# Altium footprint library Package_SON.PcbLib: 112 footprints (part 6 of 7)
Each footprint in its own frame and in the unit in brackets; x right, y up, seen from the top. Pads: shape width x height; smd on the part's side, far side on the other; paste and mask are expansions set on the pad; w line width, h text height; cw(c..) or ccw(c..) is an arc to the next point about the centre after c.
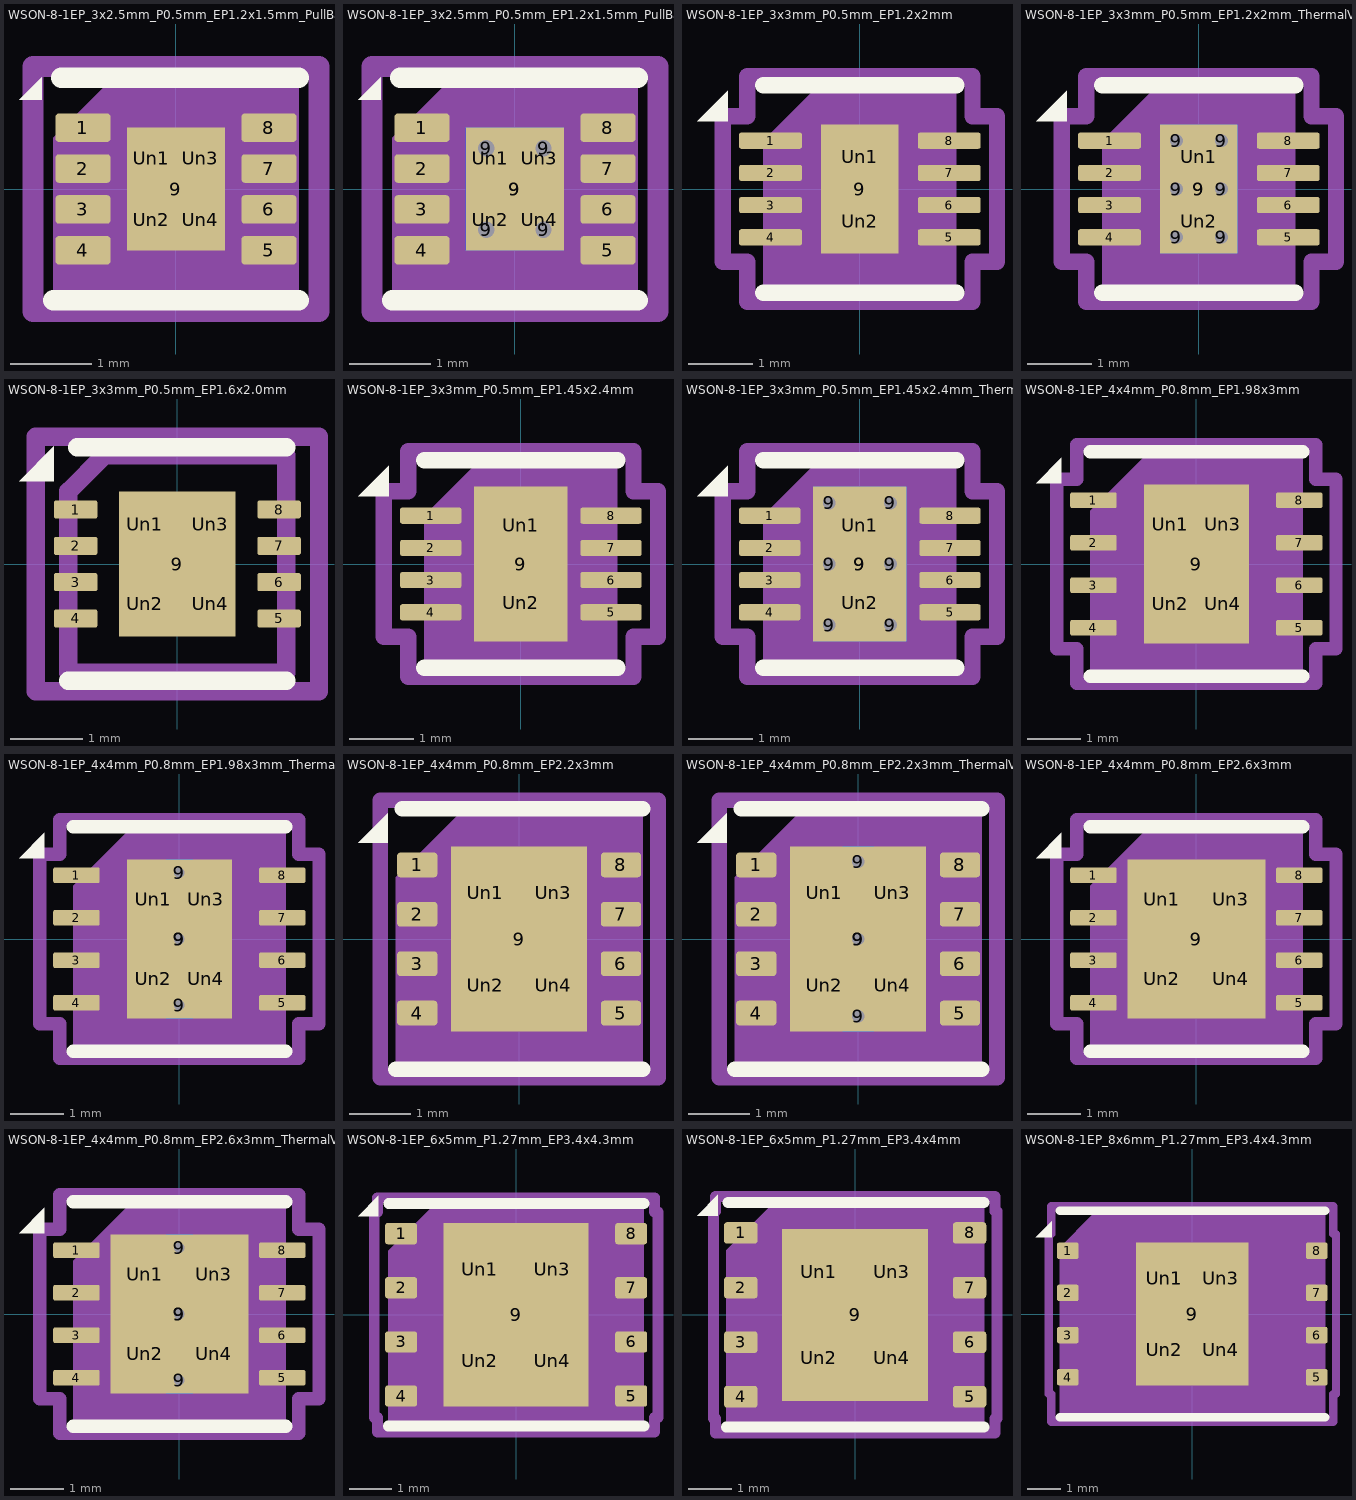
[diagram p5: the footprints below, top view; thin cyan lines are the x and y axes]

## WSON-8-1EP_3x2.5mm_P0.5mm_EP1.2x1.5mm_PullBack [mm] "WSON-8-1EP_3x2.5mm_P0.5mm_EP1.2x1.5mm_PullBack"
pads (13):
  rrect25% 0.675x0.35 smd: 1(-1.138,0.75) 2(-1.138,0.25) 3(-1.138,-0.25) 4(-1.138,-0.75) 5(1.138,-0.75) 6(1.138,-0.25) 7(1.138,0.25) 8(1.138,0.75)
  rect 1.2x1.5 smd: 9(0,0)
  rrect25% 0.48x0.6 on Top Paste: Un1(-0.3,0.375) Un2(-0.3,-0.375) Un3(0.3,0.375) Un4(0.3,-0.375)
F.SilkS:
  region: -1.64,1.09 -1.92,1.09 -1.64,1.37
  lines w0.254: -1.5,-1.36 1.5,-1.36 ; -1.4,1.36 1.5,1.36
Top Component Center:
  lines w0.127: -0.127,0 0.127,0 ; 0,-0.127 0,0.127
Top Assembly:
  region: 1.5,-1.25 -1.5,-1.25 -1.5,0.625 -0.875,1.25 1.5,1.25
Top Courtyard:
  lines w0.254: -1.75,-1.5 -1.75,1.5 1.75,1.5 1.75,-1.5 -1.75,-1.5
Top Designator:
  text ".Designator" at -2.252,-0.226 h1

## WSON-8-1EP_3x2.5mm_P0.5mm_EP1.2x1.5mm_PullBack_ThermalVias [mm] "WSON-8-1EP_3x2.5mm_P0.5mm_EP1.2x1.5mm_PullBack_ThermalVias"
pads (18):
  rrect25% 0.675x0.35 smd: 1(-1.138,0.75) 2(-1.138,0.25) 3(-1.138,-0.25) 4(-1.138,-0.75) 5(1.138,-0.75) 6(1.138,-0.25) 7(1.138,0.25) 8(1.138,0.75)
  round 0.5 hole 0.2: 9(-0.35,-0.5) 9(-0.35,0.5) 9(0.35,-0.5) 9(0.35,0.5)
  rect 1.2x1.5 smd: 9(0,0)
  rect 1.2x1.5 smd far side: 9(0,0)
  rrect25% 0.52x0.65 on Top Paste: Un1(-0.3,0.375) Un2(-0.3,-0.375) Un3(0.3,0.375) Un4(0.3,-0.375)
F.SilkS:
  region: -1.64,1.09 -1.92,1.09 -1.64,1.37
  lines w0.254: -1.5,-1.36 1.5,-1.36 ; -1.4,1.36 1.5,1.36
Top Component Center:
  lines w0.127: -0.127,0 0.127,0 ; 0,-0.127 0,0.127
Top Assembly:
  region: 1.5,-1.25 -1.5,-1.25 -1.5,0.625 -0.875,1.25 1.5,1.25
Top Courtyard:
  lines w0.254: -1.75,-1.5 1.75,-1.5 1.75,1.5 -1.75,1.5 -1.75,-1.5
Top Designator:
  text ".Designator" at -2.252,-0.226 h1

## WSON-8-1EP_3x3mm_P0.5mm_EP1.2x2mm [mm] "WSON-8-1EP_3x3mm_P0.5mm_EP1.2x2mm"
pads (11):
  rrect25% 0.975x0.25 smd: 1(-1.388,0.75) 2(-1.388,0.25) 3(-1.388,-0.25) 4(-1.388,-0.75) 5(1.388,-0.75) 6(1.388,-0.25) 7(1.388,0.25) 8(1.388,0.75)
  rect 1.2x2 smd: 9(0,0)
  rrect25% 0.97x0.81 on Top Paste: Un1(0,0.5) Un2(0,-0.5)
F.SilkS:
  region: -2.05,1.05 -2.53,1.05 -2.05,1.53
  lines w0.254: -1.5,-1.61 1.5,-1.61 ; -1.5,1.61 1.5,1.61
Top Component Center:
  lines w0.127: -0.127,0 0.127,0 ; 0,-0.127 0,0.127
Top Assembly:
  region: 1.5,-1.5 -1.5,-1.5 -1.5,0.75 -0.75,1.5 1.5,1.5
Top Courtyard:
  lines w0.254: -2.13,-1.13 -1.75,-1.13 -1.75,-1.75 1.75,-1.75 1.75,-1.13 2.13,-1.13 2.13,1.13 1.75,1.13 1.75,1.75 -1.75,1.75 -1.75,1.13 -2.13,1.13 -2.13,-1.13
Top Designator:
  text ".Designator" at -3.434,-0.345 h1.52
3D body "WSON-8-1EP_3x3mm_P0.5mm_EP1.6x2.0mm.step": height 0.82, standoff 0, extent -1.5,-1.49 1.5,1.49

## WSON-8-1EP_3x3mm_P0.5mm_EP1.2x2mm_ThermalVias [mm] "WSON-8-1EP_3x3mm_P0.5mm_EP1.2x2mm_ThermalVias"
pads (18):
  rrect25% 0.975x0.25 smd: 1(-1.388,0.75) 2(-1.388,0.25) 3(-1.388,-0.25) 4(-1.388,-0.75) 5(1.388,-0.75) 6(1.388,-0.25) 7(1.388,0.25) 8(1.388,0.75)
  round 0.5 hole 0.2: 9(-0.35,-0.75) 9(-0.35,0) 9(-0.35,0.75) 9(0.35,-0.75) 9(0.35,0) 9(0.35,0.75)
  rect 1.2x2 smd: 9(0,0)
  rect 1.2x2 smd far side: 9(0,0)
  rrect25% 1.04x0.87 on Top Paste: Un1(0,0.5) Un2(0,-0.5)
F.SilkS:
  region: -2.05,1.05 -2.53,1.05 -2.05,1.53
  lines w0.254: -1.5,-1.61 1.5,-1.61 ; -1.5,1.61 1.5,1.61
Top Component Center:
  lines w0.127: -0.127,0 0.127,0 ; 0,-0.127 0,0.127
Top Assembly:
  region: 1.5,-1.5 -1.5,-1.5 -1.5,0.75 -0.75,1.5 1.5,1.5
Top Courtyard:
  lines w0.254: -2.13,-1.13 -1.75,-1.13 -1.75,-1.75 1.75,-1.75 1.75,-1.13 2.13,-1.13 2.13,1.13 1.75,1.13 1.75,1.75 -1.75,1.75 -1.75,1.13 -2.13,1.13 -2.13,-1.13
Top Designator:
  text ".Designator" at -3.434,-0.345 h1.52
3D body "WSON-8-1EP_3x3mm_P0.5mm_EP1.6x2.0mm.step": height 0.82, standoff 0, extent -1.5,-1.49 1.5,1.49

## WSON-8-1EP_3x3mm_P0.5mm_EP1.6x2.0mm [mm] "WSON-8-1EP_3x3mm_P0.5mm_EP1.6x2.0mm"
pads (13):
  rrect25% 0.6x0.25 smd: 1(-1.4,0.75) 2(-1.4,0.25) 3(-1.4,-0.25) 4(-1.4,-0.75) 5(1.4,-0.75) 6(1.4,-0.25) 7(1.4,0.25) 8(1.4,0.75)
  rect 1.6x2 smd: 9(0,0)
  rect 0.6x0.8 on Top Paste: Un1(-0.45,0.55) Un2(-0.45,-0.55) Un3(0.45,0.55) Un4(0.45,-0.55)
F.SilkS:
  region: -1.7,1.14 -2.18,1.14 -1.7,1.62
  lines w0.254: -1.5,-1.61 1.5,-1.61 ; -1.38,1.61 1.5,1.61
Top Component Center:
  lines w0.127: -0.127,0 0.127,0 ; 0,-0.127 0,0.127
Top Assembly:
  lines w0.254: -1.5,-1.5 1.5,-1.5 1.5,1.5 -1,1.5 -1.5,1 -1.5,-1.5
Top Courtyard:
  lines w0.254: -1.95,-1.75 1.95,-1.75 1.95,1.75 -1.95,1.75 -1.95,-1.75
Top Designator:
  text ".Designator" at -3.434,-0.345 h1.52
3D body "WSON-8-1EP_3x3mm_P0.5mm_EP1.6x2.0mm.step": height 0.82, standoff 0, extent -1.5,-1.49 1.5,1.49

## WSON-8-1EP_3x3mm_P0.5mm_EP1.45x2.4mm [mm] "WSON-8-1EP_3x3mm_P0.5mm_EP1.45x2.4mm"
pads (11):
  rrect25% 0.95x0.25 smd: 1(-1.4,0.75) 2(-1.4,0.25) 3(-1.4,-0.25) 4(-1.4,-0.75) 5(1.4,-0.75) 6(1.4,-0.25) 7(1.4,0.25) 8(1.4,0.75)
  rect 1.45x2.4 smd: 9(0,0)
  rrect25% 1.17x0.97 on Top Paste: Un1(0,0.6) Un2(0,-0.6)
F.SilkS:
  region: -2.05,1.05 -2.53,1.05 -2.05,1.53
  lines w0.254: -1.5,-1.61 1.5,-1.61 ; -1.5,1.61 1.5,1.61
Top Component Center:
  lines w0.127: -0.127,0 0.127,0 ; 0,-0.127 0,0.127
Top Assembly:
  region: 1.5,-1.5 -1.5,-1.5 -1.5,0.75 -0.75,1.5 1.5,1.5
Top Courtyard:
  lines w0.254: -2.13,-1.13 -1.75,-1.13 -1.75,-1.75 1.75,-1.75 1.75,-1.13 2.13,-1.13 2.13,1.13 1.75,1.13 1.75,1.75 -1.75,1.75 -1.75,1.13 -2.13,1.13 -2.13,-1.13
Top Designator:
  text ".Designator" at -3.434,-0.345 h1.52
3D body "WSON-8-1EP_3x3mm_P0.5mm_EP1.6x2.0mm.step": height 0.82, standoff 0, extent -1.5,-1.49 1.5,1.49

## WSON-8-1EP_3x3mm_P0.5mm_EP1.45x2.4mm_ThermalVias [mm] "WSON-8-1EP_3x3mm_P0.5mm_EP1.45x2.4mm_ThermalVias"
pads (18):
  rrect25% 0.95x0.25 smd: 1(-1.4,0.75) 2(-1.4,0.25) 3(-1.4,-0.25) 4(-1.4,-0.75) 5(1.4,-0.75) 6(1.4,-0.25) 7(1.4,0.25) 8(1.4,0.75)
  round 0.5 hole 0.2: 9(-0.475,-0.95) 9(-0.475,0) 9(-0.475,0.95) 9(0.475,-0.95) 9(0.475,0) 9(0.475,0.95)
  rect 1.45x2.4 smd: 9(0,0)
  rect 1.45x2.4 smd far side: 9(0,0)
  rrect24% 1.26x1.04 on Top Paste: Un1(0,0.6) Un2(0,-0.6)
F.SilkS:
  region: -2.05,1.05 -2.53,1.05 -2.05,1.53
  lines w0.254: -1.5,-1.61 1.5,-1.61 ; -1.5,1.61 1.5,1.61
Top Component Center:
  lines w0.127: -0.127,0 0.127,0 ; 0,-0.127 0,0.127
Top Assembly:
  region: 1.5,-1.5 -1.5,-1.5 -1.5,0.75 -0.75,1.5 1.5,1.5
Top Courtyard:
  lines w0.254: -2.13,-1.13 -1.75,-1.13 -1.75,-1.75 1.75,-1.75 1.75,-1.13 2.13,-1.13 2.13,1.13 1.75,1.13 1.75,1.75 -1.75,1.75 -1.75,1.13 -2.13,1.13 -2.13,-1.13
Top Designator:
  text ".Designator" at -3.434,-0.345 h1.52
3D body "WSON-8-1EP_3x3mm_P0.5mm_EP1.6x2.0mm.step": height 0.82, standoff 0, extent -1.5,-1.49 1.5,1.49

## WSON-8-1EP_4x4mm_P0.8mm_EP1.98x3mm [mm] "WSON-8-1EP_4x4mm_P0.8mm_EP1.98x3mm"
pads (13):
  rrect25% 0.875x0.3 smd: 1(-1.937,1.2) 2(-1.937,0.4) 3(-1.937,-0.4) 4(-1.937,-1.2) 5(1.937,-1.2) 6(1.937,-0.4) 7(1.937,0.4) 8(1.937,1.2)
  rect 1.98x3 smd: 9(0,0)
  rrect25% 0.8x1.21 on Top Paste: Un1(-0.495,0.75) Un2(-0.495,-0.75) Un3(0.495,0.75) Un4(0.495,-0.75)
F.SilkS:
  region: -2.54,1.52 -3.02,1.52 -2.54,2
  lines w0.254: -2,-2.11 2,-2.11 ; -2,2.11 2,2.11
Top Component Center:
  lines w0.127: -0.127,0 0.127,0 ; 0,-0.127 0,0.127
Top Assembly:
  region: 2,-2 -2,-2 -2,1 -1,2 2,2
Top Courtyard:
  lines w0.254: -2.63,-1.6 -2.25,-1.6 -2.25,-2.25 2.25,-2.25 2.25,-1.6 2.63,-1.6 2.63,1.6 2.25,1.6 2.25,2.25 -2.25,2.25 -2.25,1.6 -2.63,1.6 -2.63,-1.6
Top Designator:
  text ".Designator" at -3.434,-0.345 h1.52

## WSON-8-1EP_4x4mm_P0.8mm_EP1.98x3mm_ThermalVias [mm] "WSON-8-1EP_4x4mm_P0.8mm_EP1.98x3mm_ThermalVias"
pads (17):
  rrect25% 0.875x0.3 smd: 1(-1.937,1.2) 2(-1.937,0.4) 3(-1.937,-0.4) 4(-1.937,-1.2) 5(1.937,-1.2) 6(1.937,-0.4) 7(1.937,0.4) 8(1.937,1.2)
  round 0.5 hole 0.2: 9(0,-1.25) 9(0,0) 9(0,1.25)
  rect 1.98x3 smd: 9(0,0)
  rect 0.5x3 smd far side: 9(0,0)
  rrect25% 0.8x1.21 on Top Paste: Un1(-0.495,0.75) Un2(-0.495,-0.75) Un3(0.495,0.75) Un4(0.495,-0.75)
F.SilkS:
  region: -2.54,1.52 -3.02,1.52 -2.54,2
  lines w0.254: -2,-2.11 2,-2.11 ; -2,2.11 2,2.11
Top Component Center:
  lines w0.127: -0.127,0 0.127,0 ; 0,-0.127 0,0.127
Top Assembly:
  region: 2,-2 -2,-2 -2,1 -1,2 2,2
Top Courtyard:
  lines w0.254: -2.63,-1.6 -2.25,-1.6 -2.25,-2.25 2.25,-2.25 2.25,-1.6 2.63,-1.6 2.63,1.6 2.25,1.6 2.25,2.25 -2.25,2.25 -2.25,1.6 -2.63,1.6 -2.63,-1.6
Top Designator:
  text ".Designator" at -3.434,-0.345 h1.52

## WSON-8-1EP_4x4mm_P0.8mm_EP2.2x3mm [mm] "WSON-8-1EP_4x4mm_P0.8mm_EP2.2x3mm"
pads (13):
  rrect25% 0.65x0.4 smd: 1(-1.65,1.2) 2(-1.65,0.4) 3(-1.65,-0.4) 4(-1.65,-1.2) 5(1.65,-1.2) 6(1.65,-0.4) 7(1.65,0.4) 8(1.65,1.2)
  rect 2.2x3 smd: 9(0,0)
  rrect25% 0.89x1.21 on Top Paste: Un1(-0.55,0.75) Un2(-0.55,-0.75) Un3(0.55,0.75) Un4(0.55,-0.75)
F.SilkS:
  region: -2.13,1.56 -2.61,1.56 -2.13,2.04
  lines w0.254: -2,-2.11 2,-2.11 ; -1.89,2.11 2,2.11
Top Component Center:
  lines w0.127: -0.127,0 0.127,0 ; 0,-0.127 0,0.127
Top Assembly:
  region: 2,-2 -2,-2 -2,1 -1,2 2,2
Top Courtyard:
  lines w0.254: -2.25,-2.25 2.25,-2.25 2.25,2.25 -2.25,2.25 -2.25,-2.25
Top Designator:
  text ".Designator" at -3.434,-0.345 h1.52

## WSON-8-1EP_4x4mm_P0.8mm_EP2.2x3mm_ThermalVias [mm] "WSON-8-1EP_4x4mm_P0.8mm_EP2.2x3mm_ThermalVias"
pads (17):
  rrect25% 0.65x0.4 smd: 1(-1.65,1.2) 2(-1.65,0.4) 3(-1.65,-0.4) 4(-1.65,-1.2) 5(1.65,-1.2) 6(1.65,-0.4) 7(1.65,0.4) 8(1.65,1.2)
  round 0.5 hole 0.2: 9(0,-1.25) 9(0,0) 9(0,1.25)
  rect 2.2x3 smd: 9(0,0)
  rect 0.5x3 smd far side: 9(0,0)
  rrect25% 0.89x1.21 on Top Paste: Un1(-0.55,0.75) Un2(-0.55,-0.75) Un3(0.55,0.75) Un4(0.55,-0.75)
F.SilkS:
  region: -2.13,1.56 -2.61,1.56 -2.13,2.04
  lines w0.254: -2,-2.11 2,-2.11 ; -1.89,2.11 2,2.11
Top Component Center:
  lines w0.127: -0.127,0 0.127,0 ; 0,-0.127 0,0.127
Top Assembly:
  region: 2,-2 -2,-2 -2,1 -1,2 2,2
Top Courtyard:
  lines w0.254: -2.25,-2.25 2.25,-2.25 2.25,2.25 -2.25,2.25 -2.25,-2.25
Top Designator:
  text ".Designator" at -3.434,-0.345 h1.52

## WSON-8-1EP_4x4mm_P0.8mm_EP2.6x3mm [mm] "WSON-8-1EP_4x4mm_P0.8mm_EP2.6x3mm"
pads (13):
  rrect25% 0.875x0.3 smd: 1(-1.937,1.2) 2(-1.937,0.4) 3(-1.937,-0.4) 4(-1.937,-1.2) 5(1.937,-1.2) 6(1.937,-0.4) 7(1.937,0.4) 8(1.937,1.2)
  rect 2.6x3 smd: 9(0,0)
  rrect24% 1.05x1.21 on Top Paste: Un1(-0.65,0.75) Un2(-0.65,-0.75) Un3(0.65,0.75) Un4(0.65,-0.75)
F.SilkS:
  region: -2.54,1.52 -3.02,1.52 -2.54,2
  lines w0.254: -2,-2.11 2,-2.11 ; -2,2.11 2,2.11
Top Component Center:
  lines w0.127: -0.127,0 0.127,0 ; 0,-0.127 0,0.127
Top Assembly:
  region: 2,-2 -2,-2 -2,1 -1,2 2,2
Top Courtyard:
  lines w0.254: -2.63,-1.6 -2.25,-1.6 -2.25,-2.25 2.25,-2.25 2.25,-1.6 2.63,-1.6 2.63,1.6 2.25,1.6 2.25,2.25 -2.25,2.25 -2.25,1.6 -2.63,1.6 -2.63,-1.6
Top Designator:
  text ".Designator" at -3.434,-0.345 h1.52

## WSON-8-1EP_4x4mm_P0.8mm_EP2.6x3mm_ThermalVias [mm] "WSON-8-1EP_4x4mm_P0.8mm_EP2.6x3mm_ThermalVias"
pads (17):
  rrect25% 0.875x0.3 smd: 1(-1.937,1.2) 2(-1.937,0.4) 3(-1.937,-0.4) 4(-1.937,-1.2) 5(1.937,-1.2) 6(1.937,-0.4) 7(1.937,0.4) 8(1.937,1.2)
  round 0.5 hole 0.2: 9(0,-1.25) 9(0,0) 9(0,1.25)
  rect 2.6x3 smd: 9(0,0)
  rect 0.5x3 smd far side: 9(0,0)
  rrect24% 1.05x1.21 on Top Paste: Un1(-0.65,0.75) Un2(-0.65,-0.75) Un3(0.65,0.75) Un4(0.65,-0.75)
F.SilkS:
  region: -2.54,1.52 -3.02,1.52 -2.54,2
  lines w0.254: -2,-2.11 2,-2.11 ; -2,2.11 2,2.11
Top Component Center:
  lines w0.127: -0.127,0 0.127,0 ; 0,-0.127 0,0.127
Top Assembly:
  region: 2,-2 -2,-2 -2,1 -1,2 2,2
Top Courtyard:
  lines w0.254: -2.63,-1.6 -2.25,-1.6 -2.25,-2.25 2.25,-2.25 2.25,-1.6 2.63,-1.6 2.63,1.6 2.25,1.6 2.25,2.25 -2.25,2.25 -2.25,1.6 -2.63,1.6 -2.63,-1.6
Top Designator:
  text ".Designator" at -3.434,-0.345 h1.52

## WSON-8-1EP_6x5mm_P1.27mm_EP3.4x4.3mm [mm] "WSON-8-1EP_6x5mm_P1.27mm_EP3.4x4.3mm"
pads (13):
  rrect25% 0.75x0.5 smd: 1(-2.7,1.905) 2(-2.7,0.635) 3(-2.7,-0.635) 4(-2.7,-1.905) 5(2.7,-1.905) 6(2.7,-0.635) 7(2.7,0.635) 8(2.7,1.905)
  rect 3.4x4.3 smd: 9(0,0)
  rrect18% 1.37x1.73 on Top Paste: Un1(-0.85,1.075) Un2(-0.85,-1.075) Un3(0.85,1.075) Un4(0.85,-1.075)
F.SilkS:
  region: -3.23,2.31 -3.71,2.31 -3.23,2.79
  lines w0.254: -3,-2.61 3,-2.61 ; -2.99,2.61 3,2.61
Top Component Center:
  lines w0.127: -0.127,0 0.127,0 ; 0,-0.127 0,0.127
Top Assembly:
  region: 3,-2.5 -3,-2.5 -3,1.5 -2,2.5 3,2.5
Top Courtyard:
  lines w0.254: -3.33,-2.41 -3.25,-2.41 -3.25,-2.75 3.25,-2.75 3.25,-2.41 3.33,-2.41 3.33,2.41 3.25,2.41 3.25,2.75 -3.25,2.75 -3.25,2.41 -3.33,2.41 -3.33,-2.41
Top Designator:
  text ".Designator" at -3.434,-0.345 h1.52
3D body "WSON-8-1EP_6x5mm_P1.27mm_EP3.4x4.3mm.step": height 0.75, standoff 0, extent -3,-2.49 3,2.49

## WSON-8-1EP_6x5mm_P1.27mm_EP3.4x4mm [mm] "WSON-8-1EP_6x5mm_P1.27mm_EP3.4x4mm"
pads (13):
  rrect25% 0.775x0.5 smd: 1(-2.662,1.905) 2(-2.662,0.635) 3(-2.662,-0.635) 4(-2.662,-1.905) 5(2.662,-1.905) 6(2.662,-0.635) 7(2.662,0.635) 8(2.662,1.905)
  rect 3.4x4 smd: 9(0,0)
  rrect18% 1.37x1.61 on Top Paste: Un1(-0.85,1) Un2(-0.85,-1) Un3(0.85,1) Un4(0.85,-1)
F.SilkS:
  region: -3.2,2.31 -3.68,2.31 -3.2,2.79
  lines w0.254: -3,-2.61 3,-2.61 ; -2.96,2.61 3,2.61
Top Component Center:
  lines w0.127: -0.127,0 0.127,0 ; 0,-0.127 0,0.127
Top Assembly:
  region: 3,-2.5 -3,-2.5 -3,1.5 -2,2.5 3,2.5
Top Courtyard:
  lines w0.254: -3.3,-2.41 -3.25,-2.41 -3.25,-2.75 3.25,-2.75 3.25,-2.41 3.3,-2.41 3.3,2.41 3.25,2.41 3.25,2.75 -3.25,2.75 -3.25,2.41 -3.3,2.41 -3.3,-2.41
Top Designator:
  text ".Designator" at -3.434,-0.345 h1.52
3D body "WSON-8-1EP_6x5mm_P1.27mm_EP3.4x4.3mm.step": height 0.75, standoff 0, extent -3,-2.49 3,2.49

## WSON-8-1EP_8x6mm_P1.27mm_EP3.4x4.3mm [mm] "WSON-8-1EP_8x6mm_P1.27mm_EP3.4x4.3mm"
pads (13):
  rrect25% 0.65x0.5 smd: 1(-3.75,1.905) 2(-3.75,0.635) 3(-3.75,-0.635) 4(-3.75,-1.905) 5(3.75,-1.905) 6(3.75,-0.635) 7(3.75,0.635) 8(3.75,1.905)
  rect 3.4x4.3 smd: 9(0,0)
  rrect18% 1.37x1.73 on Top Paste: Un1(-0.85,1.075) Un2(-0.85,-1.075) Un3(0.85,1.075) Un4(0.85,-1.075)
F.SilkS:
  region: -4.23,2.31 -4.71,2.31 -4.23,2.79
  lines w0.254: -4,-3.11 4,-3.11 ; -3.99,3.11 4,3.11
Top Component Center:
  lines w0.127: -0.127,0 0.127,0 ; 0,-0.127 0,0.127
Top Assembly:
  region: 4,-3 -4,-3 -4,2 -3,3 4,3
Top Courtyard:
  lines w0.254: -4.33,-2.41 -4.25,-2.41 -4.25,-3.25 4.25,-3.25 4.25,-2.41 4.33,-2.41 4.33,2.41 4.25,2.41 4.25,3.25 -4.25,3.25 -4.25,2.41 -4.33,2.41 -4.33,-2.41
Top Designator:
  text ".Designator" at -3.434,-0.345 h1.52